# Altium footprint library Altium_Other.PcbLib: 12 footprints
Each footprint in its own frame and in the unit in brackets; x right, y up, seen from the top. Pads: shape width x height; smd on the part's side, far side on the other; paste and mask are expansions set on the pad; w line width, h text height; cw(c..) or ccw(c..) is an arc to the next point about the centre after c.
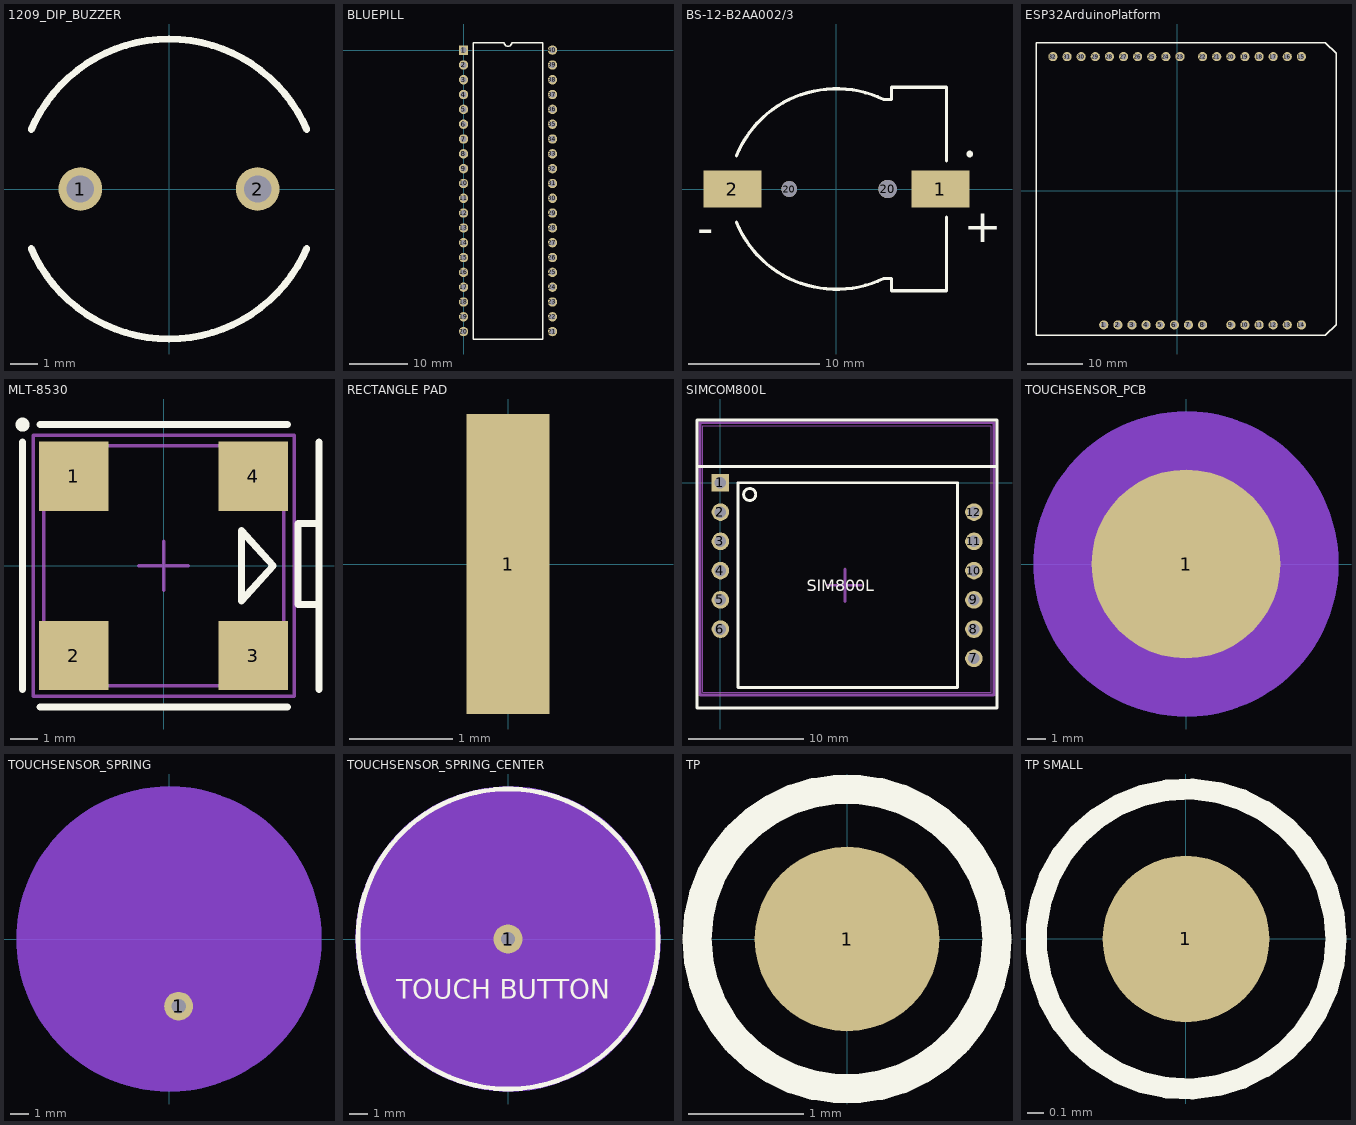
[diagram p0: the footprints below, top view; thin cyan lines are the x and y axes]

## 1209_DIP_BUZZER [mm]
pads (2):
  round 1.6 hole 1: 1(-3.25,0) 2(3.25,0)
Top Overlay:
  lines w0.254: -5.052,-2.174 ccw(c0,0) 5.052,-2.174 ; -5.052,2.174 cw(c0,0) 5.052,2.174
3D body "Buzzer_5V001.step": height 3.6, standoff -7.72, extent -7.535,-4.812 4.817,4.788

## BLUEPILL [mm]
pads (40):
  rect 1.6x1.6 hole 1: 1(0,0)
  round 1.6 hole 1: 2(0,-2.54) 3(0,-5.08) 4(0,-7.62) 5(0,-10.16) 6(0,-12.7) 7(0,-15.24) 8(0,-17.78) 9(0,-20.32) 10(0,-22.86) 11(0,-25.4) 12(0,-27.94) 13(0,-30.48) 14(0,-33.02) 15(0,-35.56) 16(0,-38.1) 17(0,-40.64) 18(0,-43.18) 19(0,-45.72) 20(0,-48.26) 21(15.24,-48.26) 22(15.24,-45.72) 23(15.24,-43.18) 24(15.24,-40.64) 25(15.24,-38.1) 26(15.24,-35.56) 27(15.24,-33.02) 28(15.24,-30.48) 29(15.24,-27.94) 30(15.24,-25.4) 31(15.24,-22.86) 32(15.24,-20.32) 33(15.24,-17.78) 34(15.24,-15.24) 35(15.24,-12.7) 36(15.24,-10.16) 37(15.24,-7.62) 38(15.24,-5.08) 39(15.24,-2.54) 40(15.24,0)
Top Overlay:
  lines w0.254: 1.689,-49.53 13.551,-49.53 13.551,1.27 8.255,1.27 cw(c7.62,1.27) 6.985,1.27 1.689,1.27 1.689,-49.53
3D body "STM32F103C8T6_Blue_Pill v6.step": height 13.58, standoff -4.69, extent -3.81,-54.102 19.05,3.458

## BS-12-B2AA002/3 [mm]
pads (4):
  rect 4.4x2.8 smd mask+0.102: 1(7.925,0) 2(-7.925,0)
  round 1.2 hole 1.2: 20(-3.6,0)
  round 1.4 hole 1.4: 20(3.9,0)
Top Overlay:
  circle w0.254: c10.16,2.667 r0.127
  lines w0.254: -7.62,-2.54 ccw(c0,0.595) 3.598,-6.817 4.191,-6.817 4.191,-7.747 8.382,-7.747 8.382,-2.159 ; -7.62,2.54 cw(c0,-0.595) 3.598,6.817 4.191,6.817 4.191,7.747 8.382,7.747 8.382,2.159
  text "+" at 9.695,-4.064 h2.54
  text "-" at -10.625,-4.191 h2.54
3D body "BatteryCaseCR1220.STEP": height 4.85, standoff 0, extent -9.3,-7.45 9.8,7.45

## ESP32ArduinoPlatform [mil] "ESP32ArduinoPlatform"
pads (32):
  round 65 hole 39.37: 1(-520,-950) 2(-420,-950) 3(-320,-950) 4(-220,-950) 5(-120,-950) 6(-20,-950) 7(80,-950) 8(180,-950) 9(380,-950) 10(480,-950) 11(580,-950) 12(680,-950) 13(780,-950) 14(880,-950) 15(880,950) 16(780,950) 17(680,950) 18(580,950) 19(480,950) 20(380,950) 21(280,950) 22(180,950) 23(20,950) 24(-80,950) 25(-180,950) 26(-280,950) 27(-380,950) 28(-480,950) 29(-580,950) 30(-680,950) 31(-780,950) 32(-880,950)
Top Overlay:
  lines w10: -1000,-1025 -1000,1050 1050,1050 1125,975 1125,-850 1125,-950 1050,-1025 -1000,-1025

## MLT-8530 [mm]
pads (4):
  rect 2.5x2.5 smd: 1(-3.229,3.229) 2(-3.229,-3.229) 3(3.229,-3.229) 4(3.229,3.229)
Top Overlay:
  circle w0.254: c-5.08,5.08 r0.127
  lines w0.254: -5.08,-4.445 -5.08,4.445 ; -4.445,-5.08 4.445,-5.08 ; -4.445,5.08 4.445,5.08 ; 5.588,-4.445 5.588,4.445 ; 5.588,-1.397 4.826,-1.397 4.826,1.524 5.588,1.524 ; 2.794,-1.27 2.794,1.27 3.937,0 2.794,-1.27
Mechanical 1:
  lines w0.127: -4.318,-4.318 4.318,-4.318 4.318,4.318 -4.318,4.318 -4.318,-4.318
Top Designator:
  text ".Designator" at -5.998,-0.425 h1.2
Mechanical 15:
  lines w0.127: -0.889,0 0.889,0 ; 0,-0.889 0,0.889 ; -4.699,-4.699 4.699,-4.699 4.699,4.699 -4.699,4.699 -4.699,-4.699
3D body "User Library-MLT-8530.step": height 3, standoff 0, extent -4.25,-4.25 4.25,4.25

## RECTANGLE PAD [mm]
pads (1):
  rect 0.8x2.9 smd: 1(0,0)

## SIMCOM800L [mil]
pads (12):
  rect 60x60 hole 39.37: 1(0,0)
  round 60 hole 39.37: 2(0,-100) 3(0,-200) 4(0,-300) 5(0,-400) 6(0,-500) 7(866.14,-600) 8(866.14,-500) 9(866.14,-400) 10(866.14,-300) 11(866.14,-200) 12(866.14,-100)
Top Overlay:
  circle w10: c100,-40 r20.62
  lines w10: -80,55 945,55 ; -80,-770 945,-770 945,215 -80,215 -80,-770 ; 60,-700 810,-700 810,0 60,0 60,-700
  text "SIM800L" at 295.04,-369.99 h40
Mechanical 13:
  circle w3.94: c100,-40 r19.68
  lines w3.94: -60,-715 925,-715 925,195 -60,195 -60,-715
Mechanical 15:
  lines w10: 370,-350 480,-350 ; 425,-405 425,-295 ; -70,-725 935,-725 935,205 -70,205 -70,-725
3D body "SIM800L.step": height 237.8, standoff -236.22, extent -59.19,-717.55 925.06,192.1

## TOUCHSENSOR_PCB [mm]
pads (1):
  round 10 smd mask+0.102: 1(0,0)
Top Layer keep-out:
  circle w10.16: c0,0 r3
Bottom Layer keep-out:
  circle w10.16: c0,0 r3
Bottom Overlay:
  circle w0.254: c0,0 r7.939
  circle w0.254: c0,0 r6.37
  circle w0.254: c0,0 r0.254
  circle w0.254: c0,0 r1.397
  circle w0.254: c0,0 r2.667
  circle w0.254: c0,0 r3.81
  circle w0.254: c0,0 r4.96
  text "TOUCH BUTTON" at 5.925,-9.906 h1.02

## TOUCHSENSOR_SPRING [mil]
pads (1):
  round 60 hole 30: 1(20,-140)
Top Layer keep-out:
  circle w400: c0,0 r118.11
Bottom Layer keep-out:
  circle w400: c0,0 r118.11
Bottom Overlay:
  circle w10: c0,0 r195.26
  circle w10: c0,0 r55
  circle w10: c0,0 r10
  circle w10: c0,0 r250.8
  circle w10: c0,0 r312.57
  lines w10: -23.88,-148.09 cw(c0,0) 63.17,-136.05 ; -12.27,-104.28 cw(c0,0) 37.38,-98.12
  text "TOUCH BUTTON" at 233.26,-389.99 h40
3D body "springs Touch.STEP": height 244.09, standoff -78.74, extent -230.75,-246.5 237.66,231.83

## TOUCHSENSOR_SPRING_CENTER [mil]
pads (1):
  round 60 hole 30: 1(0,0)
Top Layer keep-out:
  circle w400: c0,0 r118.11
Bottom Layer keep-out:
  circle w400: c0,0 r118.11
Top Overlay:
  circle w10: c0,0 r312.57
  text "TOUCH BUTTON" at -233.26,-124.99 h40
Bottom Overlay:
  circle w10: c0,0 r312.57
  circle w10: c0,0 r55
  text "TOUCH BUTTON" at 233.26,-124.99 h40

## TP [mm]
pads (1):
  round 1.6 smd: 1(0,0)
Top Overlay:
  circle w0.254: c0,0 r1.3

## TP SMALL [mm]
pads (1):
  round 1 smd: 1(0,0)
Top Overlay:
  circle w0.127: c0,0 r0.9